# Altium integrated library TI Amplifiers and Linear Special Function Amplifier.IntLib: 708 symbols (part 13 of 47)
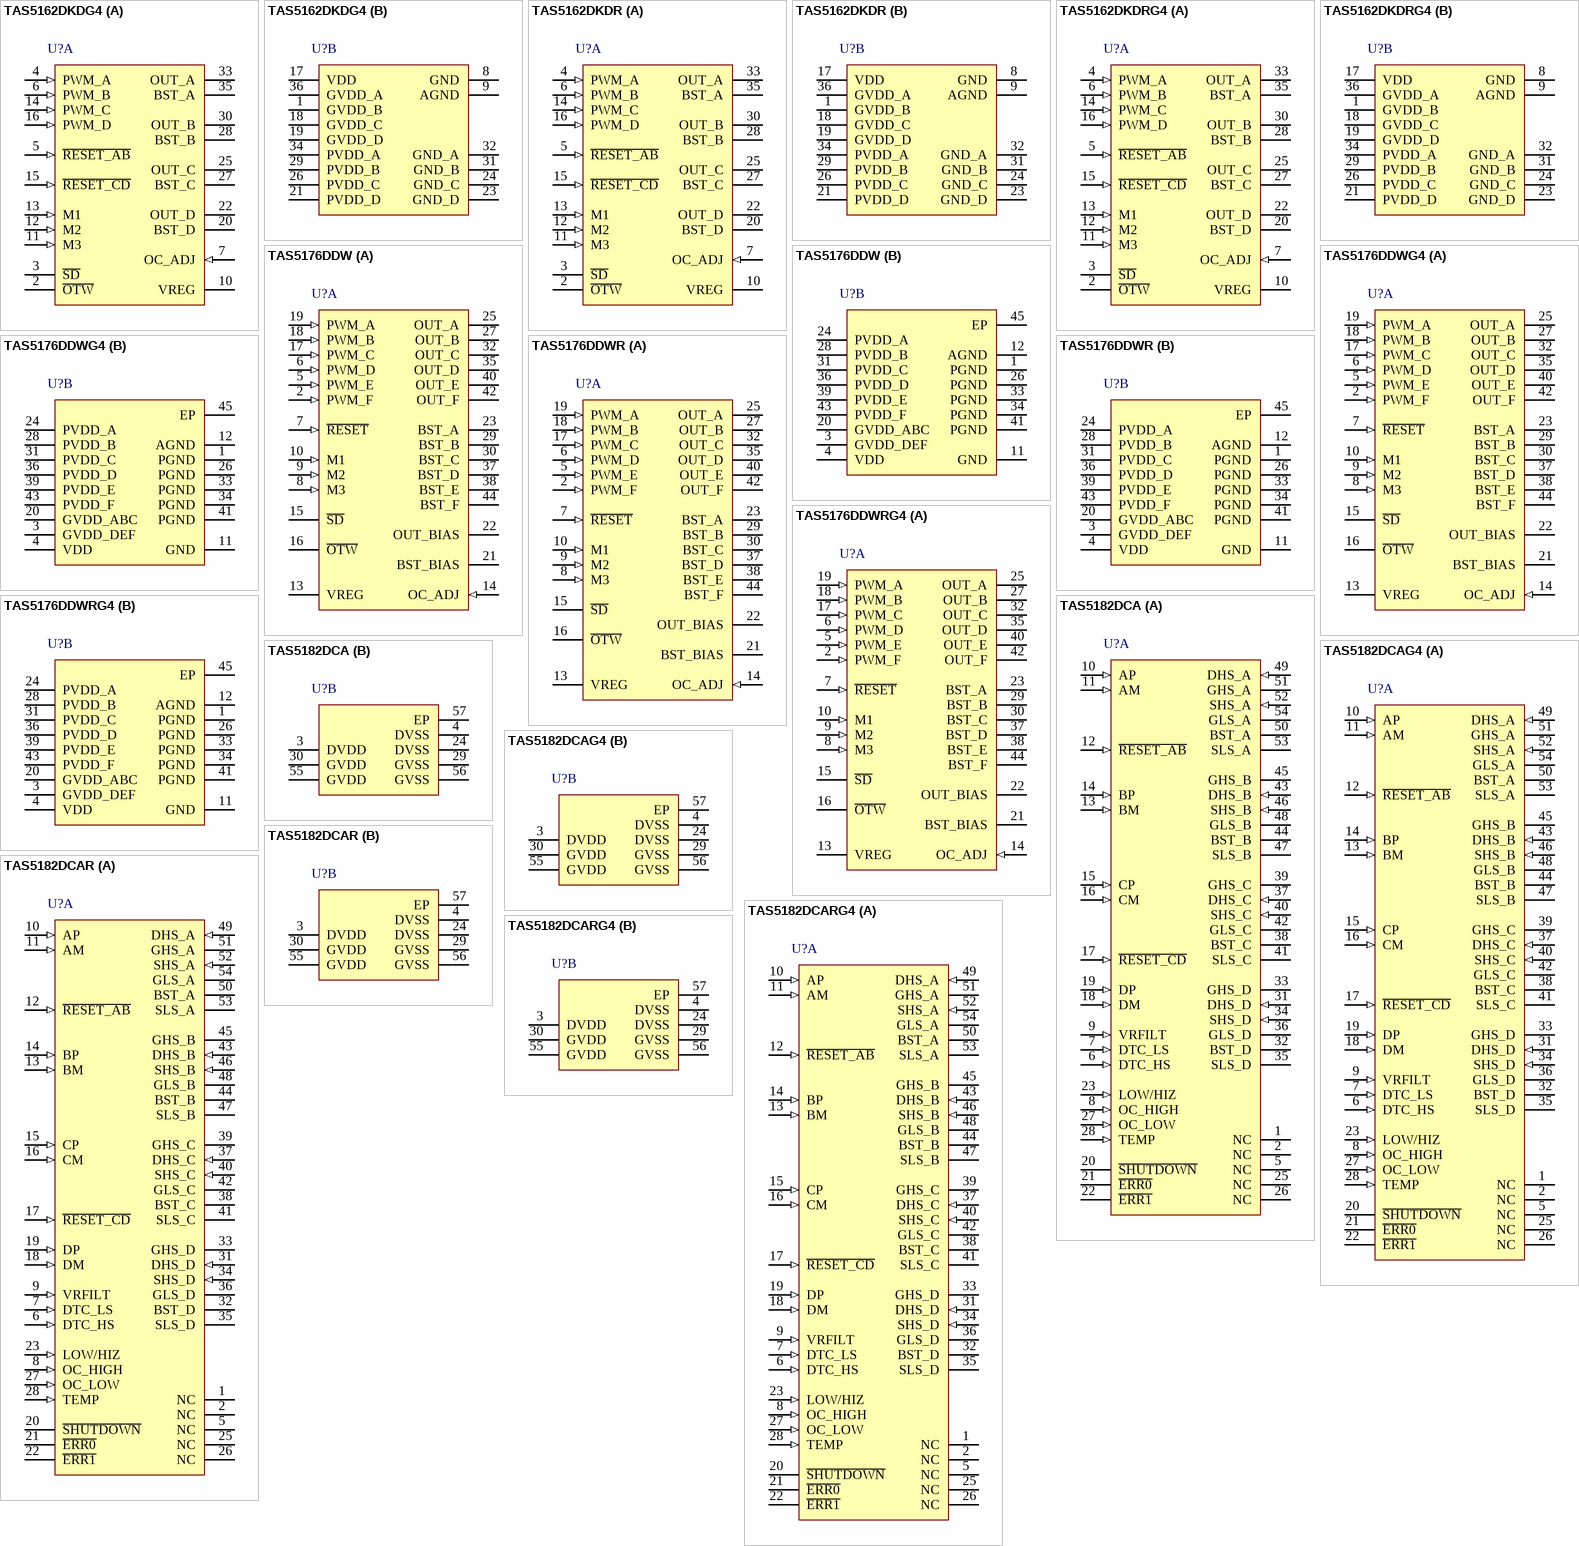
[diagram p51: symbols TAS5162DKDG4 to TAS5182DCARG4]

## TAS5182DCA
designator U?
100 W Stereo Digital Amplifier Power Stage Controller, 0 to 70 degC, 56-pin SOP (DCA56), Green (RoHS & no Sb/Br); Manufacturer: Texas Instruments; PartNumber: TAS5182DCA; Analog Supply Max [V]: 12.6; Analog Supply Min [V]: 9; Digital Supply Min [V]: 3; Input Type: PWM; Max. Number of Speaker Outputs: 2; SubFamily: Mid/High-Power Amplifier; DatasheetVersion: SLES045E; PackageVersion: 4073259-3/E, 07/2011; PackageReference: DCA56-5825X3235TP; PackageDescription: 56-Pin Plastic Small Outline, Body 14 x 6.1 mm, Pitch 0.5 mm; Supplier 1: Digi-Key; Supplier Part Number 1: 296-15249-5-ND; Supplier 2: Mouser; Supplier Part Number 2: 595-TAS5182DCA; Eco-Plan: Green (RoHS & no Sb/Br); Mounting Technology: Surface Mount; Code_JEDEC: MO-153; ComponentLink1Description: Manufacturer URL; ComponentLink1URL: http://www.ti.com/; ComponentLink2Description: Datasheet; ComponentLink2URL: http://www.ti.com/general/docs/lit/getliterature.tsp?genericPartNumber=TAS5182&fileType=pdf; ComponentLink3Description: Package Specification; ComponentLink3URL: http://www.ti.com/lit/ds/symlink/tas5182.pdf
footprint TI-DCA56-5825X3235TP_N (SOP, 56-Leads, Body 14.1x6.2mm, Pitch 0.5mm, Thermal Pad 6.35x3.61mm, IPC Medium Density)
footprint TI-DCA56-5825X3235TP_L (SOP, 56-Leads, Body 14.1x6.2mm, Pitch 0.5mm, Thermal Pad 6.35x3.61mm, IPC High Density)
footprint TI-DCA56-5825X3235TP_M (SOP, 56-Leads, Body 14.1x6.2mm, Pitch 0.5mm, Thermal Pad 6.35x3.61mm, IPC Low Density)
part A pins: 1 NC "Not connected. Terminals 1, 2, 5, 25, and 26 may be connected to DVSS.", 2 NC "Not connected. Terminals 1, 2, 5, 25, and 26 may be connected to DVSS.", 5 NC "Not connected. Terminals 1, 2, 5, 25, and 26 may be connected to DVSS.", 6 DTC_HS (in) "High-side dead-time programming, external resistor to DVSS required", 7 DTC_LS (in) "Low-side dead-time programming, external resistor to DVSS required", 8 OC_HIGH (in) "High-side overcurrent trip value programming. OC configuration circuit (see Figure 5) is required.", 9 VRFILT (in) "Bandgap reference = 1.8 V. Capacitor must be connected from VRFILT to DVSS.", 10 AP (in) "PWM input signal (positive), half-bridge A", 11 AM (in) "PWM input signal (negative), half-bridge A", 12 ~{RESET_AB} (in) "Reset signal half-bridge A and B, active low", 13 BM (in) "PWM input signal (negative), half-bridge B", 14 BP (in) "PWM input signal (positive), half-bridge B", 15 CP (in) "PWM input signal (positive), half-bridge C", 16 CM (in) "PWM input signal (negative), half-bridge C", 17 ~{RESET_CD} (in) "Reset signal half-bridge C and D, active low", 18 DM (in) "PWM input signal (negative), half-bridge D", 19 DP (in) "PWM input signal (positive), half-bridge D", 20 ~{SHUTDOWN} (oc) "Error/warning report indicator. This output is open drain with internal pull-up resistor.", 21 ~{ERR0} (oc) "Logic output, signals chip operation mode/state. This output is open drain with internal pullup resistor.", 22 ~{ERR1} (oc) "Logic output, signals chip operation mode/state. This output is open drain with internal pullup resistor.", 23 LOW/HIZ (in), 25 NC "Not connected. Terminals 1, 2, 5, 25, and 26 may be connected to DVSS.", 26 NC "Not connected. Terminals 1, 2, 5, 25, and 26 may be connected to DVSS.", 27 OC_LOW (in) "Low-side overcurrent trip value programming. OC configuration circuit (see Figure 5) is required.", 28 TEMP (in) "External temperature sensing connection", 31 DHS_D (in) "High-side drain connection, used for high-side VDS sensing", 32 BST_D "High-side bootstrap supply (BST), external capacitor to SHS_D required", 33 GHS_D (hiz) "Gate drive output for high-side MOSFET, half-bridge D", 34 SHS_D (in) "High-side source connection, used as BST floating ground (and high-side VDS sensing)", 35 SLS_D (power) "Source connection low-side MOSFET, ground return terminal, half-bridge D", 36 GLS_D (hiz) "Gate drive output for low-side MOSFET, half-bridge D", 37 DHS_C (in) "High-side drain connection, used for high-side VDS sensing", 38 BST_C "High-side bootstrap supply (BST), external capacitor to SHS_C required", 39 GHS_C (hiz) "Gate drive output for high-side MOSFET, half-bridge C", 40 SHS_C (in) "High-side source connection, used as BST floating ground (and high-side VDS sensing)", 41 SLS_C (power) "Source connection low-side MOSFET, ground return terminal, half-bridge C", 42 GLS_C (hiz) "Gate drive output for low-side MOSFET, half-bridge C", 43 DHS_B (in) "High-side drain connection, used for high-side VDS sensing", 44 BST_B "High-side bootstrap supply (BST), external capacitor to SHS_B required", 45 GHS_B (hiz) "Gate drive output for high-side MOSFET, half-bridge B", 46 SHS_B (in) "High-side source connection, used as BST floating ground (and high-side VDS sensing)", 47 SLS_B (power) "Source connection low-side MOSFET, ground return terminal, half-bridge B", 48 GLS_B (hiz) "Gate drive output for low-side MOSFET, half-bridge B", 49 DHS_A (in) "High-side drain connection, used for high-side VDS sensing", 50 BST_A "High-side bootstrap supply (BST), external capacitor to SHS_A required", 51 GHS_A (hiz) "Gate drive output for high-side MOSFET, half-bridge A", 52 SHS_A (in) "High-side source connection, used as BST floating ground (and high-side VDS sensing)", 53 SLS_A (power) "Source connection low-side MOSFET, ground return terminal, half-bridge A", 54 GLS_A (hiz) "Gate drive output for low-side MOSFET, half-bridge A"
part B pins: 3 DVDD (power) "Logic supply voltage", 4 DVSS (power) "Digital ground, reference for input signals", 24 DVSS (power) "Digital ground, reference for input signals", 29 GVSS (power) "Gate drive voltage supply ground return", 30 GVDD (power) "Gate drive voltage supply terminal", 55 GVDD (power) "Gate drive voltage supply terminal", 56 GVSS (power) "Gate drive voltage supply ground return", 57 EP

## TAS5182DCAG4
designator U?
100 W Stereo Digital Amplifier Power Stage Controller, 0 to 70 degC, 56-pin SOP (DCA56), Green (RoHS & no Sb/Br); Manufacturer: Texas Instruments; PartNumber: TAS5182DCAG4; Analog Supply Max [V]: 12.6; Analog Supply Min [V]: 9; Digital Supply Min [V]: 3; Input Type: PWM; Max. Number of Speaker Outputs: 2; SubFamily: Mid/High-Power Amplifier; DatasheetVersion: SLES045E; PackageVersion: 4073259-3/E, 07/2011; PackageReference: DCA56-5825X3235TP; PackageDescription: 56-Pin Plastic Small Outline, Body 14 x 6.1 mm, Pitch 0.5 mm; Supplier 1: Digi-Key; Supplier Part Number 1: TAS5182DCAG4-ND; Supplier 2: Mouser; Supplier Part Number 2: 595-TAS5182DCAG4; Eco-Plan: Green (RoHS & no Sb/Br); Mounting Technology: Surface Mount; Code_JEDEC: MO-153; ComponentLink1Description: Manufacturer URL; ComponentLink1URL: http://www.ti.com/; ComponentLink2Description: Datasheet; ComponentLink2URL: http://www.ti.com/general/docs/lit/getliterature.tsp?genericPartNumber=TAS5182&fileType=pdf; ComponentLink3Description: Package Specification; ComponentLink3URL: http://www.ti.com/lit/ds/symlink/tas5182.pdf
footprint TI-DCA56-5825X3235TP_N (SOP, 56-Leads, Body 14.1x6.2mm, Pitch 0.5mm, Thermal Pad 6.35x3.61mm, IPC Medium Density)
footprint TI-DCA56-5825X3235TP_L (SOP, 56-Leads, Body 14.1x6.2mm, Pitch 0.5mm, Thermal Pad 6.35x3.61mm, IPC High Density)
footprint TI-DCA56-5825X3235TP_M (SOP, 56-Leads, Body 14.1x6.2mm, Pitch 0.5mm, Thermal Pad 6.35x3.61mm, IPC Low Density)
part A pins: 1 NC "Not connected. Terminals 1, 2, 5, 25, and 26 may be connected to DVSS.", 2 NC "Not connected. Terminals 1, 2, 5, 25, and 26 may be connected to DVSS.", 5 NC "Not connected. Terminals 1, 2, 5, 25, and 26 may be connected to DVSS.", 6 DTC_HS (in) "High-side dead-time programming, external resistor to DVSS required", 7 DTC_LS (in) "Low-side dead-time programming, external resistor to DVSS required", 8 OC_HIGH (in) "High-side overcurrent trip value programming. OC configuration circuit (see Figure 5) is required.", 9 VRFILT (in) "Bandgap reference = 1.8 V. Capacitor must be connected from VRFILT to DVSS.", 10 AP (in) "PWM input signal (positive), half-bridge A", 11 AM (in) "PWM input signal (negative), half-bridge A", 12 ~{RESET_AB} (in) "Reset signal half-bridge A and B, active low", 13 BM (in) "PWM input signal (negative), half-bridge B", 14 BP (in) "PWM input signal (positive), half-bridge B", 15 CP (in) "PWM input signal (positive), half-bridge C", 16 CM (in) "PWM input signal (negative), half-bridge C", 17 ~{RESET_CD} (in) "Reset signal half-bridge C and D, active low", 18 DM (in) "PWM input signal (negative), half-bridge D", 19 DP (in) "PWM input signal (positive), half-bridge D", 20 ~{SHUTDOWN} (oc) "Error/warning report indicator. This output is open drain with internal pull-up resistor.", 21 ~{ERR0} (oc) "Logic output, signals chip operation mode/state. This output is open drain with internal pullup resistor.", 22 ~{ERR1} (oc) "Logic output, signals chip operation mode/state. This output is open drain with internal pullup resistor.", 23 LOW/HIZ (in), 25 NC "Not connected. Terminals 1, 2, 5, 25, and 26 may be connected to DVSS.", 26 NC "Not connected. Terminals 1, 2, 5, 25, and 26 may be connected to DVSS.", 27 OC_LOW (in) "Low-side overcurrent trip value programming. OC configuration circuit (see Figure 5) is required.", 28 TEMP (in) "External temperature sensing connection", 31 DHS_D (in) "High-side drain connection, used for high-side VDS sensing", 32 BST_D "High-side bootstrap supply (BST), external capacitor to SHS_D required", 33 GHS_D (hiz) "Gate drive output for high-side MOSFET, half-bridge D", 34 SHS_D (in) "High-side source connection, used as BST floating ground (and high-side VDS sensing)", 35 SLS_D (power) "Source connection low-side MOSFET, ground return terminal, half-bridge D", 36 GLS_D (hiz) "Gate drive output for low-side MOSFET, half-bridge D", 37 DHS_C (in) "High-side drain connection, used for high-side VDS sensing", 38 BST_C "High-side bootstrap supply (BST), external capacitor to SHS_C required", 39 GHS_C (hiz) "Gate drive output for high-side MOSFET, half-bridge C", 40 SHS_C (in) "High-side source connection, used as BST floating ground (and high-side VDS sensing)", 41 SLS_C (power) "Source connection low-side MOSFET, ground return terminal, half-bridge C", 42 GLS_C (hiz) "Gate drive output for low-side MOSFET, half-bridge C", 43 DHS_B (in) "High-side drain connection, used for high-side VDS sensing", 44 BST_B "High-side bootstrap supply (BST), external capacitor to SHS_B required", 45 GHS_B (hiz) "Gate drive output for high-side MOSFET, half-bridge B", 46 SHS_B (in) "High-side source connection, used as BST floating ground (and high-side VDS sensing)", 47 SLS_B (power) "Source connection low-side MOSFET, ground return terminal, half-bridge B", 48 GLS_B (hiz) "Gate drive output for low-side MOSFET, half-bridge B", 49 DHS_A (in) "High-side drain connection, used for high-side VDS sensing", 50 BST_A "High-side bootstrap supply (BST), external capacitor to SHS_A required", 51 GHS_A (hiz) "Gate drive output for high-side MOSFET, half-bridge A", 52 SHS_A (in) "High-side source connection, used as BST floating ground (and high-side VDS sensing)", 53 SLS_A (power) "Source connection low-side MOSFET, ground return terminal, half-bridge A", 54 GLS_A (hiz) "Gate drive output for low-side MOSFET, half-bridge A"
part B pins: 3 DVDD (power) "Logic supply voltage", 4 DVSS (power) "Digital ground, reference for input signals", 24 DVSS (power) "Digital ground, reference for input signals", 29 GVSS (power) "Gate drive voltage supply ground return", 30 GVDD (power) "Gate drive voltage supply terminal", 55 GVDD (power) "Gate drive voltage supply terminal", 56 GVSS (power) "Gate drive voltage supply ground return", 57 EP

## TAS5182DCAR
designator U?
100 W Stereo Digital Amplifier Power Stage Controller, 0 to 70 degC, 56-pin SOP (DCA56), Green (RoHS & no Sb/Br); Manufacturer: Texas Instruments; PartNumber: TAS5182DCAR; Analog Supply Max [V]: 12.6; Analog Supply Min [V]: 9; Digital Supply Min [V]: 3; Input Type: PWM; Max. Number of Speaker Outputs: 2; SubFamily: Mid/High-Power Amplifier; DatasheetVersion: SLES045E; PackageVersion: 4073259-3/E, 07/2011; PackageReference: DCA56-5825X3235TP; PackageDescription: 56-Pin Plastic Small Outline, Body 14 x 6.1 mm, Pitch 0.5 mm; Supplier 1: Digi-Key; Supplier Part Number 1: TAS5182DCAR-ND; Supplier 2: Mouser; Supplier Part Number 2: 595-TAS5182DCAR; Eco-Plan: Green (RoHS & no Sb/Br); Mounting Technology: Surface Mount; Code_JEDEC: MO-153; ComponentLink1Description: Manufacturer URL; ComponentLink1URL: http://www.ti.com/; ComponentLink2Description: Datasheet; ComponentLink2URL: http://www.ti.com/general/docs/lit/getliterature.tsp?genericPartNumber=TAS5182&fileType=pdf; ComponentLink3Description: Package Specification; ComponentLink3URL: http://www.ti.com/lit/ds/symlink/tas5182.pdf
footprint TI-DCA56-5825X3235TP_N (SOP, 56-Leads, Body 14.1x6.2mm, Pitch 0.5mm, Thermal Pad 6.35x3.61mm, IPC Medium Density)
footprint TI-DCA56-5825X3235TP_L (SOP, 56-Leads, Body 14.1x6.2mm, Pitch 0.5mm, Thermal Pad 6.35x3.61mm, IPC High Density)
footprint TI-DCA56-5825X3235TP_M (SOP, 56-Leads, Body 14.1x6.2mm, Pitch 0.5mm, Thermal Pad 6.35x3.61mm, IPC Low Density)
part A pins: 1 NC "Not connected. Terminals 1, 2, 5, 25, and 26 may be connected to DVSS.", 2 NC "Not connected. Terminals 1, 2, 5, 25, and 26 may be connected to DVSS.", 5 NC "Not connected. Terminals 1, 2, 5, 25, and 26 may be connected to DVSS.", 6 DTC_HS (in) "High-side dead-time programming, external resistor to DVSS required", 7 DTC_LS (in) "Low-side dead-time programming, external resistor to DVSS required", 8 OC_HIGH (in) "High-side overcurrent trip value programming. OC configuration circuit (see Figure 5) is required.", 9 VRFILT (in) "Bandgap reference = 1.8 V. Capacitor must be connected from VRFILT to DVSS.", 10 AP (in) "PWM input signal (positive), half-bridge A", 11 AM (in) "PWM input signal (negative), half-bridge A", 12 ~{RESET_AB} (in) "Reset signal half-bridge A and B, active low", 13 BM (in) "PWM input signal (negative), half-bridge B", 14 BP (in) "PWM input signal (positive), half-bridge B", 15 CP (in) "PWM input signal (positive), half-bridge C", 16 CM (in) "PWM input signal (negative), half-bridge C", 17 ~{RESET_CD} (in) "Reset signal half-bridge C and D, active low", 18 DM (in) "PWM input signal (negative), half-bridge D", 19 DP (in) "PWM input signal (positive), half-bridge D", 20 ~{SHUTDOWN} (oc) "Error/warning report indicator. This output is open drain with internal pull-up resistor.", 21 ~{ERR0} (oc) "Logic output, signals chip operation mode/state. This output is open drain with internal pullup resistor.", 22 ~{ERR1} (oc) "Logic output, signals chip operation mode/state. This output is open drain with internal pullup resistor.", 23 LOW/HIZ (in), 25 NC "Not connected. Terminals 1, 2, 5, 25, and 26 may be connected to DVSS.", 26 NC "Not connected. Terminals 1, 2, 5, 25, and 26 may be connected to DVSS.", 27 OC_LOW (in) "Low-side overcurrent trip value programming. OC configuration circuit (see Figure 5) is required.", 28 TEMP (in) "External temperature sensing connection", 31 DHS_D (in) "High-side drain connection, used for high-side VDS sensing", 32 BST_D "High-side bootstrap supply (BST), external capacitor to SHS_D required", 33 GHS_D (hiz) "Gate drive output for high-side MOSFET, half-bridge D", 34 SHS_D (in) "High-side source connection, used as BST floating ground (and high-side VDS sensing)", 35 SLS_D (power) "Source connection low-side MOSFET, ground return terminal, half-bridge D", 36 GLS_D (hiz) "Gate drive output for low-side MOSFET, half-bridge D", 37 DHS_C (in) "High-side drain connection, used for high-side VDS sensing", 38 BST_C "High-side bootstrap supply (BST), external capacitor to SHS_C required", 39 GHS_C (hiz) "Gate drive output for high-side MOSFET, half-bridge C", 40 SHS_C (in) "High-side source connection, used as BST floating ground (and high-side VDS sensing)", 41 SLS_C (power) "Source connection low-side MOSFET, ground return terminal, half-bridge C", 42 GLS_C (hiz) "Gate drive output for low-side MOSFET, half-bridge C", 43 DHS_B (in) "High-side drain connection, used for high-side VDS sensing", 44 BST_B "High-side bootstrap supply (BST), external capacitor to SHS_B required", 45 GHS_B (hiz) "Gate drive output for high-side MOSFET, half-bridge B", 46 SHS_B (in) "High-side source connection, used as BST floating ground (and high-side VDS sensing)", 47 SLS_B (power) "Source connection low-side MOSFET, ground return terminal, half-bridge B", 48 GLS_B (hiz) "Gate drive output for low-side MOSFET, half-bridge B", 49 DHS_A (in) "High-side drain connection, used for high-side VDS sensing", 50 BST_A "High-side bootstrap supply (BST), external capacitor to SHS_A required", 51 GHS_A (hiz) "Gate drive output for high-side MOSFET, half-bridge A", 52 SHS_A (in) "High-side source connection, used as BST floating ground (and high-side VDS sensing)", 53 SLS_A (power) "Source connection low-side MOSFET, ground return terminal, half-bridge A", 54 GLS_A (hiz) "Gate drive output for low-side MOSFET, half-bridge A"
part B pins: 3 DVDD (power) "Logic supply voltage", 4 DVSS (power) "Digital ground, reference for input signals", 24 DVSS (power) "Digital ground, reference for input signals", 29 GVSS (power) "Gate drive voltage supply ground return", 30 GVDD (power) "Gate drive voltage supply terminal", 55 GVDD (power) "Gate drive voltage supply terminal", 56 GVSS (power) "Gate drive voltage supply ground return", 57 EP

## TAS5182DCARG4
designator U?
100 W Stereo Digital Amplifier Power Stage Controller, 0 to 70 degC, 56-pin SOP (DCA56), Green (RoHS & no Sb/Br); Manufacturer: Texas Instruments; PartNumber: TAS5182DCARG4; Analog Supply Max [V]: 12.6; Analog Supply Min [V]: 9; Digital Supply Min [V]: 3; Input Type: PWM; Max. Number of Speaker Outputs: 2; SubFamily: Mid/High-Power Amplifier; DatasheetVersion: SLES045E; PackageVersion: 4073259-3/E, 07/2011; PackageReference: DCA56-5825X3235TP; PackageDescription: 56-Pin Plastic Small Outline, Body 14 x 6.1 mm, Pitch 0.5 mm; Supplier 1: Digi-Key; Supplier Part Number 1: TAS5182DCARG4-ND; Supplier 2: Mouser; Supplier Part Number 2: 595-TAS5182DCARG4; Eco-Plan: Green (RoHS & no Sb/Br); Mounting Technology: Surface Mount; Code_JEDEC: MO-153; ComponentLink1Description: Manufacturer URL; ComponentLink1URL: http://www.ti.com/; ComponentLink2Description: Datasheet; ComponentLink2URL: http://www.ti.com/general/docs/lit/getliterature.tsp?genericPartNumber=TAS5182&fileType=pdf; ComponentLink3Description: Package Specification; ComponentLink3URL: http://www.ti.com/lit/ds/symlink/tas5182.pdf
footprint TI-DCA56-5825X3235TP_N (SOP, 56-Leads, Body 14.1x6.2mm, Pitch 0.5mm, Thermal Pad 6.35x3.61mm, IPC Medium Density)
footprint TI-DCA56-5825X3235TP_L (SOP, 56-Leads, Body 14.1x6.2mm, Pitch 0.5mm, Thermal Pad 6.35x3.61mm, IPC High Density)
footprint TI-DCA56-5825X3235TP_M (SOP, 56-Leads, Body 14.1x6.2mm, Pitch 0.5mm, Thermal Pad 6.35x3.61mm, IPC Low Density)
part A pins: 1 NC "Not connected. Terminals 1, 2, 5, 25, and 26 may be connected to DVSS.", 2 NC "Not connected. Terminals 1, 2, 5, 25, and 26 may be connected to DVSS.", 5 NC "Not connected. Terminals 1, 2, 5, 25, and 26 may be connected to DVSS.", 6 DTC_HS (in) "High-side dead-time programming, external resistor to DVSS required", 7 DTC_LS (in) "Low-side dead-time programming, external resistor to DVSS required", 8 OC_HIGH (in) "High-side overcurrent trip value programming. OC configuration circuit (see Figure 5) is required.", 9 VRFILT (in) "Bandgap reference = 1.8 V. Capacitor must be connected from VRFILT to DVSS.", 10 AP (in) "PWM input signal (positive), half-bridge A", 11 AM (in) "PWM input signal (negative), half-bridge A", 12 ~{RESET_AB} (in) "Reset signal half-bridge A and B, active low", 13 BM (in) "PWM input signal (negative), half-bridge B", 14 BP (in) "PWM input signal (positive), half-bridge B", 15 CP (in) "PWM input signal (positive), half-bridge C", 16 CM (in) "PWM input signal (negative), half-bridge C", 17 ~{RESET_CD} (in) "Reset signal half-bridge C and D, active low", 18 DM (in) "PWM input signal (negative), half-bridge D", 19 DP (in) "PWM input signal (positive), half-bridge D", 20 ~{SHUTDOWN} (oc) "Error/warning report indicator. This output is open drain with internal pull-up resistor.", 21 ~{ERR0} (oc) "Logic output, signals chip operation mode/state. This output is open drain with internal pullup resistor.", 22 ~{ERR1} (oc) "Logic output, signals chip operation mode/state. This output is open drain with internal pullup resistor.", 23 LOW/HIZ (in), 25 NC "Not connected. Terminals 1, 2, 5, 25, and 26 may be connected to DVSS.", 26 NC "Not connected. Terminals 1, 2, 5, 25, and 26 may be connected to DVSS.", 27 OC_LOW (in) "Low-side overcurrent trip value programming. OC configuration circuit (see Figure 5) is required.", 28 TEMP (in) "External temperature sensing connection", 31 DHS_D (in) "High-side drain connection, used for high-side VDS sensing", 32 BST_D "High-side bootstrap supply (BST), external capacitor to SHS_D required", 33 GHS_D (hiz) "Gate drive output for high-side MOSFET, half-bridge D", 34 SHS_D (in) "High-side source connection, used as BST floating ground (and high-side VDS sensing)", 35 SLS_D (power) "Source connection low-side MOSFET, ground return terminal, half-bridge D", 36 GLS_D (hiz) "Gate drive output for low-side MOSFET, half-bridge D", 37 DHS_C (in) "High-side drain connection, used for high-side VDS sensing", 38 BST_C "High-side bootstrap supply (BST), external capacitor to SHS_C required", 39 GHS_C (hiz) "Gate drive output for high-side MOSFET, half-bridge C", 40 SHS_C (in) "High-side source connection, used as BST floating ground (and high-side VDS sensing)", 41 SLS_C (power) "Source connection low-side MOSFET, ground return terminal, half-bridge C", 42 GLS_C (hiz) "Gate drive output for low-side MOSFET, half-bridge C", 43 DHS_B (in) "High-side drain connection, used for high-side VDS sensing", 44 BST_B "High-side bootstrap supply (BST), external capacitor to SHS_B required", 45 GHS_B (hiz) "Gate drive output for high-side MOSFET, half-bridge B", 46 SHS_B (in) "High-side source connection, used as BST floating ground (and high-side VDS sensing)", 47 SLS_B (power) "Source connection low-side MOSFET, ground return terminal, half-bridge B", 48 GLS_B (hiz) "Gate drive output for low-side MOSFET, half-bridge B", 49 DHS_A (in) "High-side drain connection, used for high-side VDS sensing", 50 BST_A "High-side bootstrap supply (BST), external capacitor to SHS_A required", 51 GHS_A (hiz) "Gate drive output for high-side MOSFET, half-bridge A", 52 SHS_A (in) "High-side source connection, used as BST floating ground (and high-side VDS sensing)", 53 SLS_A (power) "Source connection low-side MOSFET, ground return terminal, half-bridge A", 54 GLS_A (hiz) "Gate drive output for low-side MOSFET, half-bridge A"
part B pins: 3 DVDD (power) "Logic supply voltage", 4 DVSS (power) "Digital ground, reference for input signals", 24 DVSS (power) "Digital ground, reference for input signals", 29 GVSS (power) "Gate drive voltage supply ground return", 30 GVDD (power) "Gate drive voltage supply terminal", 55 GVDD (power) "Gate drive voltage supply terminal", 56 GVSS (power) "Gate drive voltage supply ground return", 57 EP

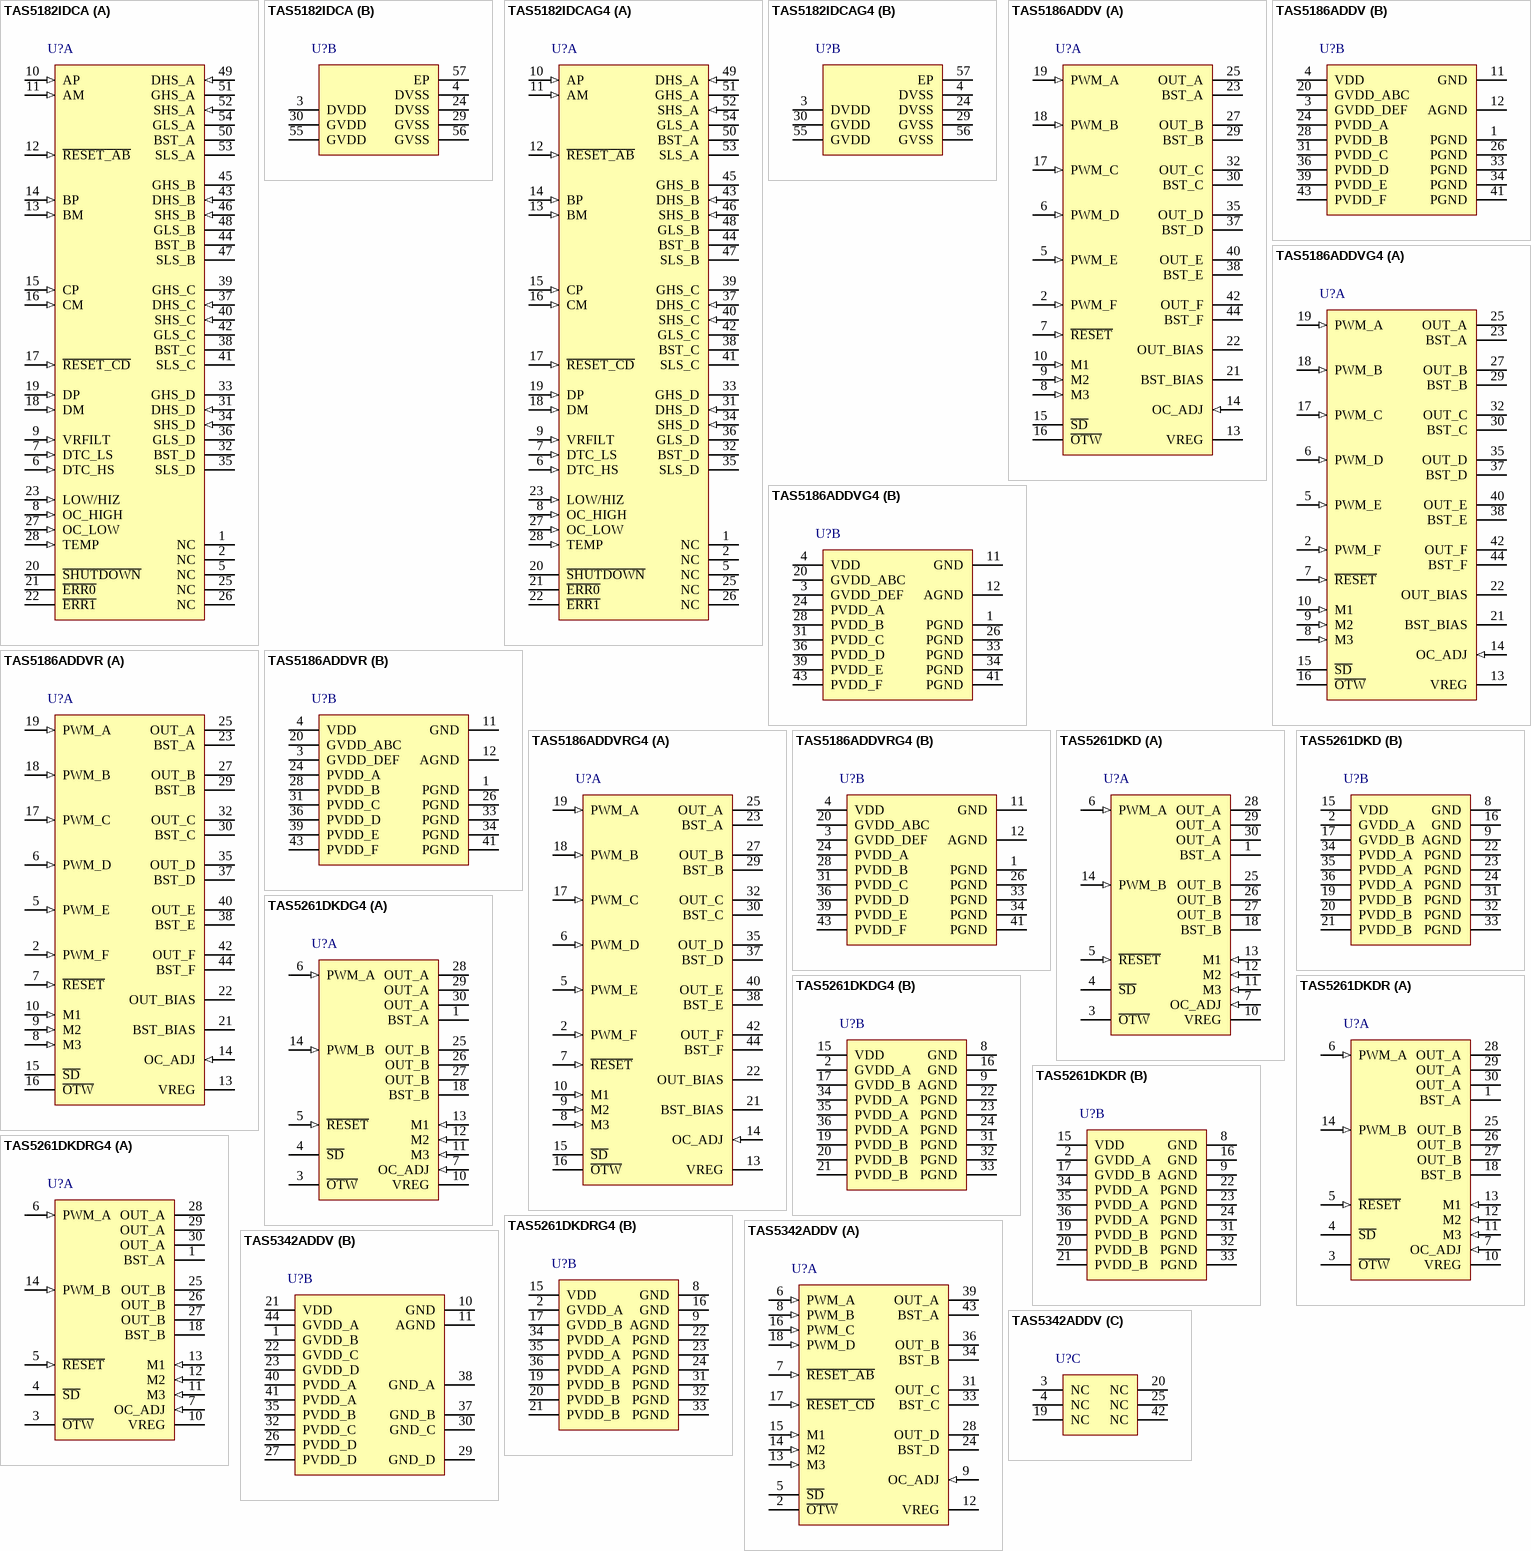
[diagram p12: symbols TAS5182IDCA to TAS5342ADDV]

## TAS5182IDCA
designator U?
100 W Stereo Digital Amplifier Power Stage Controller, -40 to 85 degC, 56-pin SOP (DCA56), Green (RoHS & no Sb/Br); Manufacturer: Texas Instruments; PartNumber: TAS5182IDCA; Analog Supply Max [V]: 12.6; Analog Supply Min [V]: 9; Digital Supply Min [V]: 3; Input Type: PWM; Max. Number of Speaker Outputs: 2; SubFamily: Mid/High-Power Amplifier; DatasheetVersion: SLES045E; PackageVersion: 4073259-3/E, 07/2011; PackageReference: DCA56-5825X3235TP; PackageDescription: 56-Pin Plastic Small Outline, Body 14 x 6.1 mm, Pitch 0.5 mm; Supplier 1: Digi-Key; Supplier Part Number 1: 296-16663-5-ND; Supplier 2: Mouser; Supplier Part Number 2: 595-TAS5182IDCA; Eco-Plan: Green (RoHS & no Sb/Br); Mounting Technology: Surface Mount; Code_JEDEC: MO-153; ComponentLink1Description: Manufacturer URL; ComponentLink1URL: http://www.ti.com/; ComponentLink2Description: Datasheet; ComponentLink2URL: http://www.ti.com/general/docs/lit/getliterature.tsp?genericPartNumber=TAS5182&fileType=pdf; ComponentLink3Description: Package Specification; ComponentLink3URL: http://www.ti.com/lit/ds/symlink/tas5182.pdf
footprint TI-DCA56-5825X3235TP_N (SOP, 56-Leads, Body 14.1x6.2mm, Pitch 0.5mm, Thermal Pad 6.35x3.61mm, IPC Medium Density)
footprint TI-DCA56-5825X3235TP_L (SOP, 56-Leads, Body 14.1x6.2mm, Pitch 0.5mm, Thermal Pad 6.35x3.61mm, IPC High Density)
footprint TI-DCA56-5825X3235TP_M (SOP, 56-Leads, Body 14.1x6.2mm, Pitch 0.5mm, Thermal Pad 6.35x3.61mm, IPC Low Density)
part A pins: 1 NC "Not connected. Terminals 1, 2, 5, 25, and 26 may be connected to DVSS.", 2 NC "Not connected. Terminals 1, 2, 5, 25, and 26 may be connected to DVSS.", 5 NC "Not connected. Terminals 1, 2, 5, 25, and 26 may be connected to DVSS.", 6 DTC_HS (in) "High-side dead-time programming, external resistor to DVSS required", 7 DTC_LS (in) "Low-side dead-time programming, external resistor to DVSS required", 8 OC_HIGH (in) "High-side overcurrent trip value programming. OC configuration circuit (see Figure 5) is required.", 9 VRFILT (in) "Bandgap reference = 1.8 V. Capacitor must be connected from VRFILT to DVSS.", 10 AP (in) "PWM input signal (positive), half-bridge A", 11 AM (in) "PWM input signal (negative), half-bridge A", 12 ~{RESET_AB} (in) "Reset signal half-bridge A and B, active low", 13 BM (in) "PWM input signal (negative), half-bridge B", 14 BP (in) "PWM input signal (positive), half-bridge B", 15 CP (in) "PWM input signal (positive), half-bridge C", 16 CM (in) "PWM input signal (negative), half-bridge C", 17 ~{RESET_CD} (in) "Reset signal half-bridge C and D, active low", 18 DM (in) "PWM input signal (negative), half-bridge D", 19 DP (in) "PWM input signal (positive), half-bridge D", 20 ~{SHUTDOWN} (oc) "Error/warning report indicator. This output is open drain with internal pull-up resistor.", 21 ~{ERR0} (oc) "Logic output, signals chip operation mode/state. This output is open drain with internal pullup resistor.", 22 ~{ERR1} (oc) "Logic output, signals chip operation mode/state. This output is open drain with internal pullup resistor.", 23 LOW/HIZ (in), 25 NC "Not connected. Terminals 1, 2, 5, 25, and 26 may be connected to DVSS.", 26 NC "Not connected. Terminals 1, 2, 5, 25, and 26 may be connected to DVSS.", 27 OC_LOW (in) "Low-side overcurrent trip value programming. OC configuration circuit (see Figure 5) is required.", 28 TEMP (in) "External temperature sensing connection", 31 DHS_D (in) "High-side drain connection, used for high-side VDS sensing", 32 BST_D "High-side bootstrap supply (BST), external capacitor to SHS_D required", 33 GHS_D (hiz) "Gate drive output for high-side MOSFET, half-bridge D", 34 SHS_D (in) "High-side source connection, used as BST floating ground (and high-side VDS sensing)", 35 SLS_D (power) "Source connection low-side MOSFET, ground return terminal, half-bridge D", 36 GLS_D (hiz) "Gate drive output for low-side MOSFET, half-bridge D", 37 DHS_C (in) "High-side drain connection, used for high-side VDS sensing", 38 BST_C "High-side bootstrap supply (BST), external capacitor to SHS_C required", 39 GHS_C (hiz) "Gate drive output for high-side MOSFET, half-bridge C", 40 SHS_C (in) "High-side source connection, used as BST floating ground (and high-side VDS sensing)", 41 SLS_C (power) "Source connection low-side MOSFET, ground return terminal, half-bridge C", 42 GLS_C (hiz) "Gate drive output for low-side MOSFET, half-bridge C", 43 DHS_B (in) "High-side drain connection, used for high-side VDS sensing", 44 BST_B "High-side bootstrap supply (BST), external capacitor to SHS_B required", 45 GHS_B (hiz) "Gate drive output for high-side MOSFET, half-bridge B", 46 SHS_B (in) "High-side source connection, used as BST floating ground (and high-side VDS sensing)", 47 SLS_B (power) "Source connection low-side MOSFET, ground return terminal, half-bridge B", 48 GLS_B (hiz) "Gate drive output for low-side MOSFET, half-bridge B", 49 DHS_A (in) "High-side drain connection, used for high-side VDS sensing", 50 BST_A "High-side bootstrap supply (BST), external capacitor to SHS_A required", 51 GHS_A (hiz) "Gate drive output for high-side MOSFET, half-bridge A", 52 SHS_A (in) "High-side source connection, used as BST floating ground (and high-side VDS sensing)", 53 SLS_A (power) "Source connection low-side MOSFET, ground return terminal, half-bridge A", 54 GLS_A (hiz) "Gate drive output for low-side MOSFET, half-bridge A"
part B pins: 3 DVDD (power) "Logic supply voltage", 4 DVSS (power) "Digital ground, reference for input signals", 24 DVSS (power) "Digital ground, reference for input signals", 29 GVSS (power) "Gate drive voltage supply ground return", 30 GVDD (power) "Gate drive voltage supply terminal", 55 GVDD (power) "Gate drive voltage supply terminal", 56 GVSS (power) "Gate drive voltage supply ground return", 57 EP

## TAS5182IDCAG4
designator U?
100 W Stereo Digital Amplifier Power Stage Controller, -40 to 85 degC, 56-pin SOP (DCA56), Green (RoHS & no Sb/Br); Manufacturer: Texas Instruments; PartNumber: TAS5182IDCAG4; Analog Supply Max [V]: 12.6; Analog Supply Min [V]: 9; Digital Supply Min [V]: 3; Input Type: PWM; Max. Number of Speaker Outputs: 2; SubFamily: Mid/High-Power Amplifier; DatasheetVersion: SLES045E; PackageVersion: 4073259-3/E, 07/2011; PackageReference: DCA56-5825X3235TP; PackageDescription: 56-Pin Plastic Small Outline, Body 14 x 6.1 mm, Pitch 0.5 mm; Supplier 1: Digi-Key; Supplier Part Number 1: TAS5182IDCAG4-ND; Supplier 2: Mouser; Supplier Part Number 2: 595-TAS5182IDCAG4; Eco-Plan: Green (RoHS & no Sb/Br); Mounting Technology: Surface Mount; Code_JEDEC: MO-153; ComponentLink1Description: Manufacturer URL; ComponentLink1URL: http://www.ti.com/; ComponentLink2Description: Datasheet; ComponentLink2URL: http://www.ti.com/general/docs/lit/getliterature.tsp?genericPartNumber=TAS5182&fileType=pdf; ComponentLink3Description: Package Specification; ComponentLink3URL: http://www.ti.com/lit/ds/symlink/tas5182.pdf
footprint TI-DCA56-5825X3235TP_N (SOP, 56-Leads, Body 14.1x6.2mm, Pitch 0.5mm, Thermal Pad 6.35x3.61mm, IPC Medium Density)
footprint TI-DCA56-5825X3235TP_L (SOP, 56-Leads, Body 14.1x6.2mm, Pitch 0.5mm, Thermal Pad 6.35x3.61mm, IPC High Density)
footprint TI-DCA56-5825X3235TP_M (SOP, 56-Leads, Body 14.1x6.2mm, Pitch 0.5mm, Thermal Pad 6.35x3.61mm, IPC Low Density)
part A pins: 1 NC "Not connected. Terminals 1, 2, 5, 25, and 26 may be connected to DVSS.", 2 NC "Not connected. Terminals 1, 2, 5, 25, and 26 may be connected to DVSS.", 5 NC "Not connected. Terminals 1, 2, 5, 25, and 26 may be connected to DVSS.", 6 DTC_HS (in) "High-side dead-time programming, external resistor to DVSS required", 7 DTC_LS (in) "Low-side dead-time programming, external resistor to DVSS required", 8 OC_HIGH (in) "High-side overcurrent trip value programming. OC configuration circuit (see Figure 5) is required.", 9 VRFILT (in) "Bandgap reference = 1.8 V. Capacitor must be connected from VRFILT to DVSS.", 10 AP (in) "PWM input signal (positive), half-bridge A", 11 AM (in) "PWM input signal (negative), half-bridge A", 12 ~{RESET_AB} (in) "Reset signal half-bridge A and B, active low", 13 BM (in) "PWM input signal (negative), half-bridge B", 14 BP (in) "PWM input signal (positive), half-bridge B", 15 CP (in) "PWM input signal (positive), half-bridge C", 16 CM (in) "PWM input signal (negative), half-bridge C", 17 ~{RESET_CD} (in) "Reset signal half-bridge C and D, active low", 18 DM (in) "PWM input signal (negative), half-bridge D", 19 DP (in) "PWM input signal (positive), half-bridge D", 20 ~{SHUTDOWN} (oc) "Error/warning report indicator. This output is open drain with internal pull-up resistor.", 21 ~{ERR0} (oc) "Logic output, signals chip operation mode/state. This output is open drain with internal pullup resistor.", 22 ~{ERR1} (oc) "Logic output, signals chip operation mode/state. This output is open drain with internal pullup resistor.", 23 LOW/HIZ (in), 25 NC "Not connected. Terminals 1, 2, 5, 25, and 26 may be connected to DVSS.", 26 NC "Not connected. Terminals 1, 2, 5, 25, and 26 may be connected to DVSS.", 27 OC_LOW (in) "Low-side overcurrent trip value programming. OC configuration circuit (see Figure 5) is required.", 28 TEMP (in) "External temperature sensing connection", 31 DHS_D (in) "High-side drain connection, used for high-side VDS sensing", 32 BST_D "High-side bootstrap supply (BST), external capacitor to SHS_D required", 33 GHS_D (hiz) "Gate drive output for high-side MOSFET, half-bridge D", 34 SHS_D (in) "High-side source connection, used as BST floating ground (and high-side VDS sensing)", 35 SLS_D (power) "Source connection low-side MOSFET, ground return terminal, half-bridge D", 36 GLS_D (hiz) "Gate drive output for low-side MOSFET, half-bridge D", 37 DHS_C (in) "High-side drain connection, used for high-side VDS sensing", 38 BST_C "High-side bootstrap supply (BST), external capacitor to SHS_C required", 39 GHS_C (hiz) "Gate drive output for high-side MOSFET, half-bridge C", 40 SHS_C (in) "High-side source connection, used as BST floating ground (and high-side VDS sensing)", 41 SLS_C (power) "Source connection low-side MOSFET, ground return terminal, half-bridge C", 42 GLS_C (hiz) "Gate drive output for low-side MOSFET, half-bridge C", 43 DHS_B (in) "High-side drain connection, used for high-side VDS sensing", 44 BST_B "High-side bootstrap supply (BST), external capacitor to SHS_B required", 45 GHS_B (hiz) "Gate drive output for high-side MOSFET, half-bridge B", 46 SHS_B (in) "High-side source connection, used as BST floating ground (and high-side VDS sensing)", 47 SLS_B (power) "Source connection low-side MOSFET, ground return terminal, half-bridge B", 48 GLS_B (hiz) "Gate drive output for low-side MOSFET, half-bridge B", 49 DHS_A (in) "High-side drain connection, used for high-side VDS sensing", 50 BST_A "High-side bootstrap supply (BST), external capacitor to SHS_A required", 51 GHS_A (hiz) "Gate drive output for high-side MOSFET, half-bridge A", 52 SHS_A (in) "High-side source connection, used as BST floating ground (and high-side VDS sensing)", 53 SLS_A (power) "Source connection low-side MOSFET, ground return terminal, half-bridge A", 54 GLS_A (hiz) "Gate drive output for low-side MOSFET, half-bridge A"
part B pins: 3 DVDD (power) "Logic supply voltage", 4 DVSS (power) "Digital ground, reference for input signals", 24 DVSS (power) "Digital ground, reference for input signals", 29 GVSS (power) "Gate drive voltage supply ground return", 30 GVDD (power) "Gate drive voltage supply terminal", 55 GVDD (power) "Gate drive voltage supply terminal", 56 GVSS (power) "Gate drive voltage supply ground return", 57 EP

## TAS5186ADDV
designator U?
210 W (6-Channel) Digital Amplifier Power Stage, 0 to 70 degC, 44-pin SOP (DDV44), Green (RoHS & no Sb/Br); Manufacturer: Texas Instruments; PartNumber: TAS5186ADDV; Analog Supply Max [V]: 13.2; Analog Supply Min [V]: 10.8; Input Type: PWM; Max. Number of Speaker Outputs: 6; SubFamily: Mid/High-Power Amplifier; DatasheetVersion: SLES156; PackageVersion: 4206011/G, 06/2011; PackageReference: DDV44-7600X3850TP; PackageDescription: 44-Pin Plastic Small Outline, Body 14 x 6.1 mm, Pitch 0.635 mm; Supplier 1: Digi-Key; Supplier Part Number 1: 296-19320-5-ND; Supplier 2: Newark; Supplier Part Number 2: 66K4312; Supplier 3: Mouser; Supplier Part Number 3: 595-TAS5186ADDV; Eco-Plan: Green (RoHS & no Sb/Br); Mounting Technology: Surface Mount; ComponentLink1Description: Manufacturer URL; ComponentLink1URL: http://www.ti.com/; ComponentLink2Description: Datasheet; ComponentLink2URL: http://www.ti.com/general/docs/lit/getliterature.tsp?genericPartNumber=TAS5186A&fileType=pdf; ComponentLink3Description: Package Specification; ComponentLink3URL: http://www.ti.com/lit/ds/symlink/tas5142.pdf
footprint TI-DDV44-7600X3850TP _N (SOP, 44-Leads, Body 14x6.1mm, Pitch 0.635mm, Thermal Pad 8.3x4.2mm, IPC Medium Density)
footprint TI-DDV44-7600X3850TP _L (SOP, 44-Leads, Body 14x6.1mm, Pitch 0.635mm, Thermal Pad 8.3x4.2mm, IPC High Density)
footprint TI-DDV44-7600X3850TP _M (SOP, 44-Leads, Body 14x6.1mm, Pitch 0.635mm, Thermal Pad 8.3x4.2mm, IPC Low Density)
part A pins: 2 PWM_F (in) "PWM input signal for half-bridge F", 5 PWM_E (in) "PWM input signal for half-bridge E", 6 PWM_D (in) "PWM input signal for half-bridge D", 7 ~{RESET} (in) "Reset signal (active-low logic)", 8 M3 (in) "Mode selection pin", 9 M2 (in) "Mode selection pin", 10 M1 (in) "Mode selection pin", 13 VREG "Digital regulator supply filter pin, output", 14 OC_ADJ (in) "Overcurrent threshold programming pin, resistor to ground required", 15 ~{SD} (oc) "Shutdown open-drain output signal, active-low", 16 ~{OTW} (oc) "Overtemperature warning open-drain output signal, active-low", 17 PWM_C (in) "PWM input signal for half-bridge C", 18 PWM_B (in) "PWM input signal for half-bridge B", 19 PWM_A (in) "PWM input signal for half-bridge A", 21 BST_BIAS "BIAS bootstrap supply, external capacitor to OUT_BIAS required", 22 OUT_BIAS (hiz) "BIAS half-bridge output pin", 23 BST_A "HS bootstrap supply (BST), capacitor to OUT_A required", 25 OUT_A (hiz) "Output, half-bridge A, satellite", 27 OUT_B (hiz) "Output, half-bridge B, satellite", 29 BST_B "HS bootstrap supply (BST), external capacitor to OUT_B required", 30 BST_C "HS bootstrap supply (BST), external capacitor to OUT_C required", 32 OUT_C (hiz) "Output, half-bridge C, subwoofer", 35 OUT_D (hiz) "Output, half-bridge D, satellite", 37 BST_D "HS bootstrap supply (BST), external capacitor to OUT_D required", 38 BST_E "HS bootstrap supply (BST), external capacitor to OUT_E required", 40 OUT_E (hiz) "Output, half-bridge E, satellite", 42 OUT_F (hiz) "Output, half-bridge F, satellite", 44 BST_F "HS bootstrap supply (BST), external capacitor to OUT_F required"
part B pins: 1 PGND (power) "Power ground", 3 GVDD_DEF (power) "Gate drive voltage supply", 4 VDD (power) "Power supply for digital voltage regulator", 11 GND (power) "Chip ground", 12 AGND (power) "Analog ground", 20 GVDD_ABC (power) "Gate drive voltage supply", 24 PVDD_A (power) "Power-supply input for half-bridge A", 26 PGND (power) "Power ground", 28 PVDD_B (power) "Power-supply input for half-bridge B", 31 PVDD_C (power) "Power-supply input for half-bridge C", 33 PGND (power) "Power ground", 34 PGND (power) "Power ground", 36 PVDD_D (power) "Power-supply input for half-bridge D", 39 PVDD_E (power) "Power-supply input for half-bridge E", 41 PGND (power) "Power ground", 43 PVDD_F (power) "Power-supply input for half-bridge F"

## TAS5186ADDVG4
designator U?
210 W (6-Channel) Digital Amplifier Power Stage, 0 to 70 degC, 44-pin SOP (DDV44), Green (RoHS & no Sb/Br); Manufacturer: Texas Instruments; PartNumber: TAS5186ADDVG4; Analog Supply Max [V]: 13.2; Analog Supply Min [V]: 10.8; Input Type: PWM; Max. Number of Speaker Outputs: 6; SubFamily: Mid/High-Power Amplifier; DatasheetVersion: SLES156; PackageVersion: 4206011/G, 06/2011; PackageReference: DDV44-7600X3850TP; PackageDescription: 44-Pin Plastic Small Outline, Body 14 x 6.1 mm, Pitch 0.635 mm; Supplier 1: Digi-Key; Supplier Part Number 1: TAS5186ADDVG4-ND; Supplier 2: Newark; Supplier Part Number 2: 67K8431; Supplier 3: Mouser; Supplier Part Number 3: 595-TAS5186ADDVG4; Eco-Plan: Green (RoHS & no Sb/Br); Mounting Technology: Surface Mount; ComponentLink1Description: Manufacturer URL; ComponentLink1URL: http://www.ti.com/; ComponentLink2Description: Datasheet; ComponentLink2URL: http://www.ti.com/general/docs/lit/getliterature.tsp?genericPartNumber=TAS5186A&fileType=pdf; ComponentLink3Description: Package Specification; ComponentLink3URL: http://www.ti.com/lit/ds/symlink/tas5142.pdf
footprint TI-DDV44-7600X3850TP _N (SOP, 44-Leads, Body 14x6.1mm, Pitch 0.635mm, Thermal Pad 8.3x4.2mm, IPC Medium Density)
footprint TI-DDV44-7600X3850TP _L (SOP, 44-Leads, Body 14x6.1mm, Pitch 0.635mm, Thermal Pad 8.3x4.2mm, IPC High Density)
footprint TI-DDV44-7600X3850TP _M (SOP, 44-Leads, Body 14x6.1mm, Pitch 0.635mm, Thermal Pad 8.3x4.2mm, IPC Low Density)
part A pins: 2 PWM_F (in) "PWM input signal for half-bridge F", 5 PWM_E (in) "PWM input signal for half-bridge E", 6 PWM_D (in) "PWM input signal for half-bridge D", 7 ~{RESET} (in) "Reset signal (active-low logic)", 8 M3 (in) "Mode selection pin", 9 M2 (in) "Mode selection pin", 10 M1 (in) "Mode selection pin", 13 VREG "Digital regulator supply filter pin, output", 14 OC_ADJ (in) "Overcurrent threshold programming pin, resistor to ground required", 15 ~{SD} (oc) "Shutdown open-drain output signal, active-low", 16 ~{OTW} (oc) "Overtemperature warning open-drain output signal, active-low", 17 PWM_C (in) "PWM input signal for half-bridge C", 18 PWM_B (in) "PWM input signal for half-bridge B", 19 PWM_A (in) "PWM input signal for half-bridge A", 21 BST_BIAS "BIAS bootstrap supply, external capacitor to OUT_BIAS required", 22 OUT_BIAS (hiz) "BIAS half-bridge output pin", 23 BST_A "HS bootstrap supply (BST), capacitor to OUT_A required", 25 OUT_A (hiz) "Output, half-bridge A, satellite", 27 OUT_B (hiz) "Output, half-bridge B, satellite", 29 BST_B "HS bootstrap supply (BST), external capacitor to OUT_B required", 30 BST_C "HS bootstrap supply (BST), external capacitor to OUT_C required", 32 OUT_C (hiz) "Output, half-bridge C, subwoofer", 35 OUT_D (hiz) "Output, half-bridge D, satellite", 37 BST_D "HS bootstrap supply (BST), external capacitor to OUT_D required", 38 BST_E "HS bootstrap supply (BST), external capacitor to OUT_E required", 40 OUT_E (hiz) "Output, half-bridge E, satellite", 42 OUT_F (hiz) "Output, half-bridge F, satellite", 44 BST_F "HS bootstrap supply (BST), external capacitor to OUT_F required"
part B pins: 1 PGND (power) "Power ground", 3 GVDD_DEF (power) "Gate drive voltage supply", 4 VDD (power) "Power supply for digital voltage regulator", 11 GND (power) "Chip ground", 12 AGND (power) "Analog ground", 20 GVDD_ABC (power) "Gate drive voltage supply", 24 PVDD_A (power) "Power-supply input for half-bridge A", 26 PGND (power) "Power ground", 28 PVDD_B (power) "Power-supply input for half-bridge B", 31 PVDD_C (power) "Power-supply input for half-bridge C", 33 PGND (power) "Power ground", 34 PGND (power) "Power ground", 36 PVDD_D (power) "Power-supply input for half-bridge D", 39 PVDD_E (power) "Power-supply input for half-bridge E", 41 PGND (power) "Power ground", 43 PVDD_F (power) "Power-supply input for half-bridge F"

## TAS5186ADDVR
designator U?
210 W (6-Channel) Digital Amplifier Power Stage, 0 to 70 degC, 44-pin SOP (DDV44), Green (RoHS & no Sb/Br); Manufacturer: Texas Instruments; PartNumber: TAS5186ADDVR; Analog Supply Max [V]: 13.2; Analog Supply Min [V]: 10.8; Input Type: PWM; Max. Number of Speaker Outputs: 6; SubFamily: Mid/High-Power Amplifier; DatasheetVersion: SLES156; PackageVersion: 4206011/G, 06/2011; PackageReference: DDV44-7600X3850TP; PackageDescription: 44-Pin Plastic Small Outline, Body 14 x 6.1 mm, Pitch 0.635 mm; Supplier 1: Digi-Key; Supplier Part Number 1: 296-19321-2-ND; Supplier 2: Digi-Key; Supplier Part Number 2: 296-19321-1-ND; Supplier 3: Digi-Key; Supplier Part Number 3: 296-19321-6-ND; Supplier 4: Newark; Supplier Part Number 4: 66K4313; Supplier 5: Mouser; Supplier Part Number 5: 595-TAS5186ADDVR; Eco-Plan: Green (RoHS & no Sb/Br); Mounting Technology: Surface Mount; ComponentLink1Description: Manufacturer URL; ComponentLink1URL: http://www.ti.com/; ComponentLink2Description: Datasheet; ComponentLink2URL: http://www.ti.com/general/docs/lit/getliterature.tsp?genericPartNumber=TAS5186A&fileType=pdf; ComponentLink3Description: Package Specification; ComponentLink3URL: http://www.ti.com/lit/ds/symlink/tas5142.pdf
footprint TI-DDV44-7600X3850TP _N (SOP, 44-Leads, Body 14x6.1mm, Pitch 0.635mm, Thermal Pad 8.3x4.2mm, IPC Medium Density)
footprint TI-DDV44-7600X3850TP _L (SOP, 44-Leads, Body 14x6.1mm, Pitch 0.635mm, Thermal Pad 8.3x4.2mm, IPC High Density)
footprint TI-DDV44-7600X3850TP _M (SOP, 44-Leads, Body 14x6.1mm, Pitch 0.635mm, Thermal Pad 8.3x4.2mm, IPC Low Density)
part A pins: 2 PWM_F (in) "PWM input signal for half-bridge F", 5 PWM_E (in) "PWM input signal for half-bridge E", 6 PWM_D (in) "PWM input signal for half-bridge D", 7 ~{RESET} (in) "Reset signal (active-low logic)", 8 M3 (in) "Mode selection pin", 9 M2 (in) "Mode selection pin", 10 M1 (in) "Mode selection pin", 13 VREG "Digital regulator supply filter pin, output", 14 OC_ADJ (in) "Overcurrent threshold programming pin, resistor to ground required", 15 ~{SD} (oc) "Shutdown open-drain output signal, active-low", 16 ~{OTW} (oc) "Overtemperature warning open-drain output signal, active-low", 17 PWM_C (in) "PWM input signal for half-bridge C", 18 PWM_B (in) "PWM input signal for half-bridge B", 19 PWM_A (in) "PWM input signal for half-bridge A", 21 BST_BIAS "BIAS bootstrap supply, external capacitor to OUT_BIAS required", 22 OUT_BIAS (hiz) "BIAS half-bridge output pin", 23 BST_A "HS bootstrap supply (BST), capacitor to OUT_A required", 25 OUT_A (hiz) "Output, half-bridge A, satellite", 27 OUT_B (hiz) "Output, half-bridge B, satellite", 29 BST_B "HS bootstrap supply (BST), external capacitor to OUT_B required", 30 BST_C "HS bootstrap supply (BST), external capacitor to OUT_C required", 32 OUT_C (hiz) "Output, half-bridge C, subwoofer", 35 OUT_D (hiz) "Output, half-bridge D, satellite", 37 BST_D "HS bootstrap supply (BST), external capacitor to OUT_D required", 38 BST_E "HS bootstrap supply (BST), external capacitor to OUT_E required", 40 OUT_E (hiz) "Output, half-bridge E, satellite", 42 OUT_F (hiz) "Output, half-bridge F, satellite", 44 BST_F "HS bootstrap supply (BST), external capacitor to OUT_F required"
part B pins: 1 PGND (power) "Power ground", 3 GVDD_DEF (power) "Gate drive voltage supply", 4 VDD (power) "Power supply for digital voltage regulator", 11 GND (power) "Chip ground", 12 AGND (power) "Analog ground", 20 GVDD_ABC (power) "Gate drive voltage supply", 24 PVDD_A (power) "Power-supply input for half-bridge A", 26 PGND (power) "Power ground", 28 PVDD_B (power) "Power-supply input for half-bridge B", 31 PVDD_C (power) "Power-supply input for half-bridge C", 33 PGND (power) "Power ground", 34 PGND (power) "Power ground", 36 PVDD_D (power) "Power-supply input for half-bridge D", 39 PVDD_E (power) "Power-supply input for half-bridge E", 41 PGND (power) "Power ground", 43 PVDD_F (power) "Power-supply input for half-bridge F"